# Altium footprint library AltiumLibrary.PcbLib: 85 footprints (part 3 of 6)
Each footprint in its own frame and in the unit in brackets; x right, y up, seen from the top. Pads: shape width x height; smd on the part's side, far side on the other; paste and mask are expansions set on the pad; w line width, h text height; cw(c..) or ccw(c..) is an arc to the next point about the centre after c.
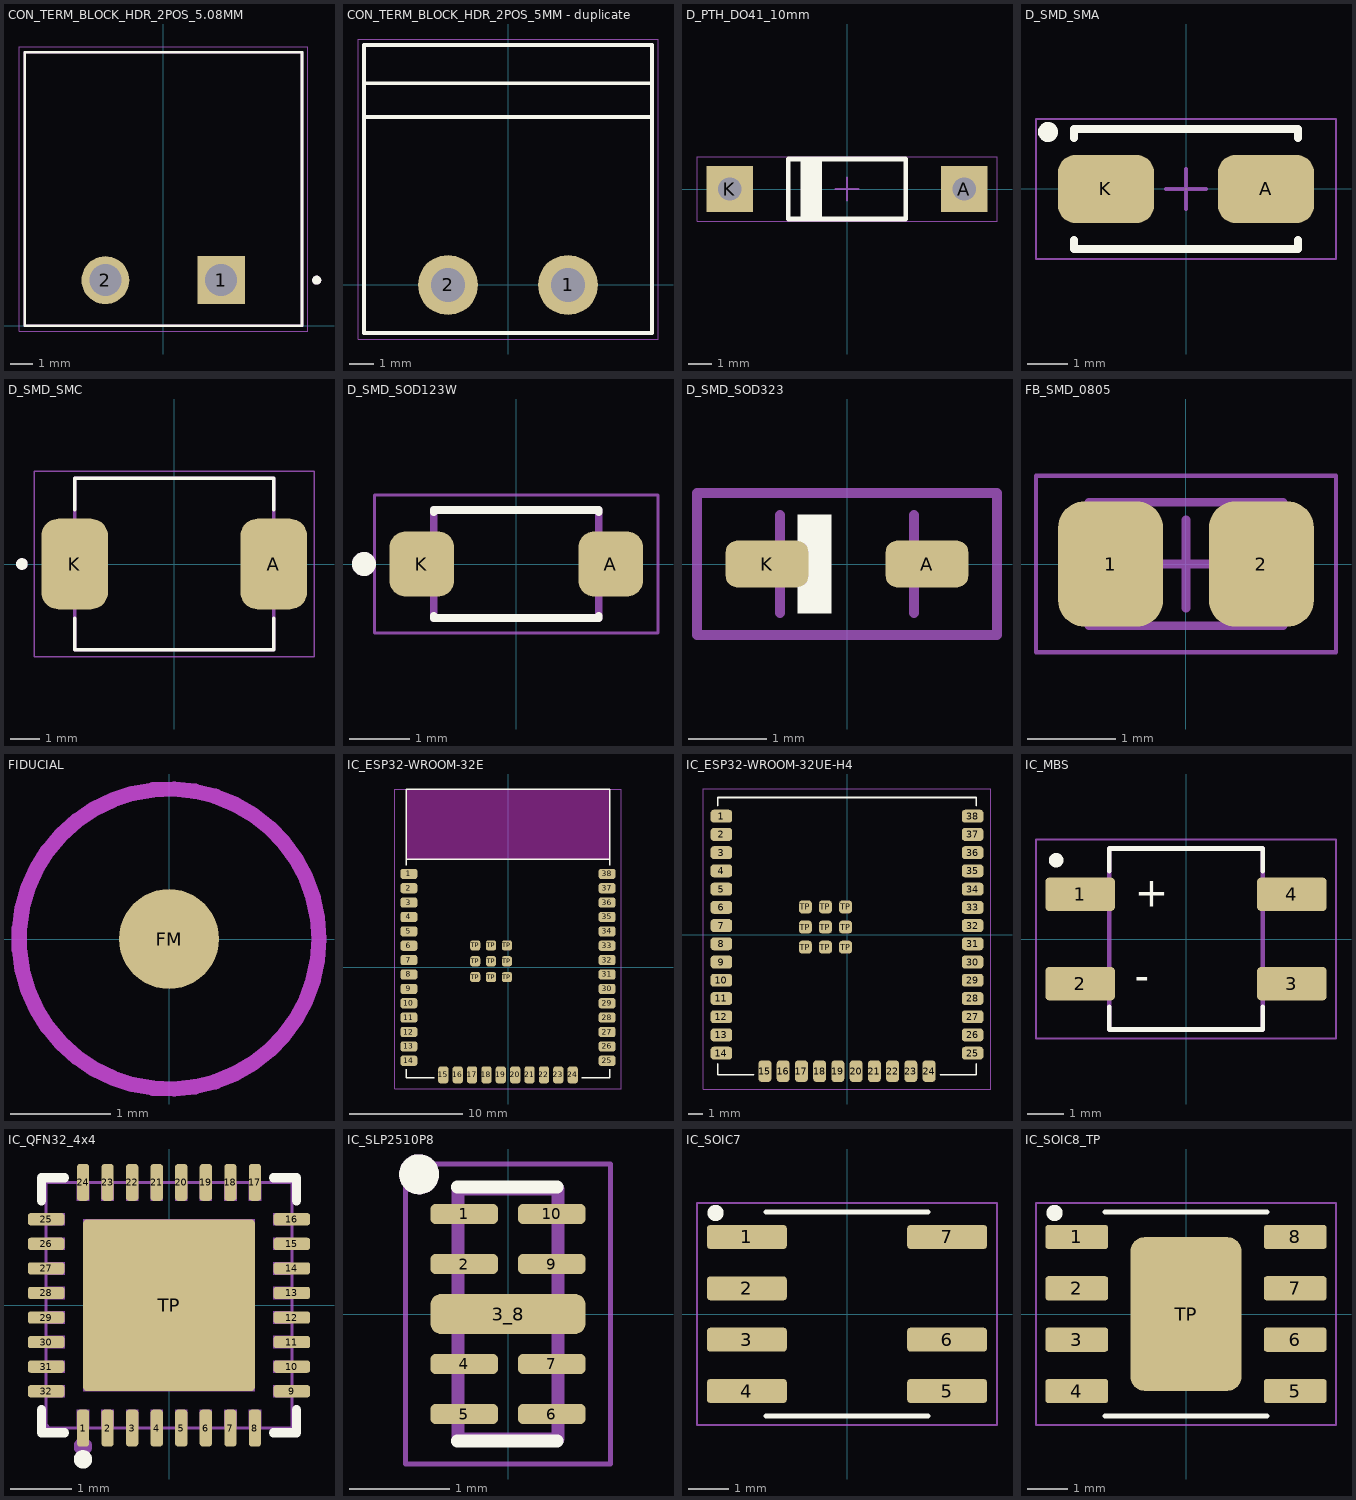
[diagram p2: the footprints below, top view; thin cyan lines are the x and y axes]

## CON_TERM_BLOCK_HDR_2POS_5.08MM [mm] "2 Position Terminal Block Header, Male Pins, Shrouded (4 Side) 0.200\" (5.08mm) 90°, Right Angle Through Hole"
height 11.8
pads (2):
  rect 2.1x2.1 hole 1.4: 1(2.54,2)
  round 2.1 hole 1.4: 2(-2.54,2)
Top Overlay:
  circle w0.2: c6.73,2 r0.1
  lines w0.127: -6.08,0 -6.08,12 6.08,12 6.08,0 -6.08,0
Top Assembly (Mech13):
  circle w0.2: c6.73,2 r0.1
  lines w0.127: -6.08,0 6.08,0 6.08,12 -6.08,12 -6.08,0
Top Courtyard:
  lines w0.05: -6.33,-0.25 6.33,-0.25 6.33,12.25 -6.33,12.25 -6.33,-0.25
3D body "step_temp.STEP": height 8.6, standoff -3.5, extent -6.04,0 6.04,12

## CON_TERM_BLOCK_HDR_2POS_5MM - duplicate [mm] "2 Position Terminal Block Header, Male Pins, Shrouded (4 Side) 5.0mm 90°, Right Angle Through Hole"
height 11.8
pads (2):
  round 2.5 hole 1.4: 1(2.5,0) 2(-2.5,0)
Top Overlay:
  lines w0.152: -6,7 6,7 ; -6,8.4 6,8.4 ; -6,-2 6,-2 6,10 -6,10 -6,-2
Top Courtyard:
  lines w0.051: -6.25,-2.25 6.25,-2.25 6.25,10.25 -6.25,10.25 -6.25,-2.25
3D body "Connector8p v1.step": height 15.55, standoff -3.47, extent -6,-1.905 6,20.295

## D_PTH_DO41_10mm [mm] "Generic DO41 PTH diode - 10.08mm lead spacing"
height 2.2
pads (2):
  rect 2x2 hole 1: A(5.08,0) K(-5.08,0)
Top Overlay:
  region: -2,1.3 -2,-1.3 -1.1,-1.3 -1.1,1.3
  lines w0.2: -2.55,-1.3 -2.55,1.3 2.55,1.3 2.55,-1.3 -2.55,-1.3
Top Courtyard:
  lines w0.05: -6.5,-1.4 -6.5,1.4 6.5,1.4 6.5,-1.4 -6.5,-1.4
  lines w0.1: -0.5,0 0.5,0 ; 0,-0.5 0,0.5
3D body "DIODE.step": height 3, standoff -3, extent -5.465,-1.3 5.465,1.3

## D_SMD_SMA [mm] "Molded Diode, 2-Leads, Body 5,20x2,73mm, IPC Medium Density"
height 2.2
pads (2):
  rrect50% 2.4x1.7 smd: A(2,0) K(-2,0)
Top Overlay:
  circle w0.25: c-3.45,1.425 r0.125
  lines w0.2: -2.8,-1.275 -2.8,-1.5 2.8,-1.5 2.8,-1.275 ; -2.8,1.275 -2.8,1.5 2.8,1.5 2.8,1.275
Top Courtyard:
  lines w0.05: -3.75,-1.75 3.75,-1.75 3.75,1.75 -3.75,1.75 -3.75,-1.75
  lines w0.1: -0.5,0 0.5,0 ; 0,-0.5 0,0.5
3D body "ES1J.STEP": height 2.51, standoff 0.01, extent -2.57,-1.28 2.57,1.28

## D_SMD_SMC [mm]
height 2.62
pads (2):
  rrect50% 2.29x3.12 smd paste+0 mask+0.102: A(3.43,0) K(-3.43,0)
Top Overlay:
  circle w0.2: c-5.25,0 r0.1
  lines w0.127: -3.427,-1.88 -3.427,-2.953 3.427,-2.953 3.427,-1.88 ; -3.427,1.88 -3.427,2.953 3.427,2.953 3.427,1.88
Top Assembly (Mech13):
  circle w0.2: c-5.25,0 r0.1
  lines w0.127: -3.427,-2.953 -3.427,2.953 3.427,2.953 3.427,-2.953 -3.427,-2.953
Top Courtyard:
  lines w0.05: -4.825,-3.203 -4.825,3.203 4.825,3.203 4.825,-3.203 -4.825,-3.203
3D body "step_temp.STEP": height 2.21, standoff 0.01, extent -3.95,-2.9 3.95,2.9

## D_SMD_SOD123W [mm]
pads (2):
  rrect50% 1.08x1.09 smd: A(1.575,0) K(-1.575,0)
Top Overlay:
  circle w0.2: c-2.54,0 r0.1
  lines w0.127: -1.375,-0.895 -1.375,-0.9 ; -1.375,-0.865 -1.375,-0.9 ; -1.375,0.865 -1.375,0.9 ; -1.375,0.895 -1.375,0.9 ; 1.375,-0.895 1.375,-0.9 ; 1.375,-0.865 1.375,-0.9 ; 1.375,0.865 1.375,0.9 ; 1.375,0.895 1.375,0.9 ; -1.375,-0.9 1.375,-0.9 ; -1.375,-0.9 1.375,-0.9 ; -1.375,0.9 1.375,0.9 ; -1.375,0.9 1.375,0.9
Top Assembly (Mech13):
  circle w0.2: c-2.54,0 r0.1
  lines w0.127: -1.375,-0.9 -1.375,0.9 1.375,0.9 1.375,-0.9 -1.375,-0.9
Top Courtyard:
  lines w0.05: -2.365,-1.15 -2.365,1.15 2.365,1.15 2.365,-1.15 -2.365,-1.15
3D body "step_temp.STEP": height 1.02, standoff 0, extent -1.85,-0.9 1.85,0.9

## D_SMD_SOD323 [mm]
pads (2):
  rrect50% 1.05x0.6 smd paste+0 mask+0.102: A(1.016,0) K(-1.016,0)
Top Overlay:
  region: -0.2,-0.625 -0.625,-0.625 -0.625,0.625 -0.2,0.625
Top Assembly (Mech13):
  lines w0.127: -0.85,-0.625 -0.85,0.625 ; 0.85,-0.625 0.85,0.625
Top Courtyard:
  lines w0.127: -1.905,-0.9 1.905,-0.9 1.905,0.9 -1.905,0.9 -1.905,-0.9
3D body "step_temp.STEP": height 1.01, standoff 0.01, extent -1.25,-0.635 1.25,0.615

## FB_SMD_0805 [mm] "0805 Ferrite Bead, 2-Leads, Body 2,00x1,20mm, IPC Medium Density"
height 1.1
pads (2):
  rrect50% 1.19x1.42 smd: 1(-0.855,0) 2(0.855,0)
Top Assembly (Mech13):
  lines w0.1: -1.1,-0.7 -1.1,0.7 1.1,0.7 1.1,-0.7 -1.1,-0.7
Top Courtyard:
  lines w0.05: -1.7,-1 -1.7,1 1.7,1 1.7,-1 -1.7,-1
  lines w0.1: -0.5,0 0.5,0 ; 0,-0.5 0,0.5
3D body "FB_SMD_0805.step": height 1.1, standoff 0, extent -1.1,-0.7 1.1,0.7

## FIDUCIAL [mm]
pads (1):
  round 1 smd paste-1 mask+1: FM(0,0)
Top Layer keep-out:
  circle w0.152: c0,0 r1.5
Top Courtyard:
  circle w0.152: c0,0 r1.5

## IC_ESP32-WROOM-32E [mm]
height 3.2
pads (47):
  rrect50% 1.5x0.9 smd: 1(-8.75,8.255) 2(-8.75,6.985) 3(-8.75,5.715) 4(-8.75,4.445) 5(-8.75,3.175) 6(-8.75,1.905) 7(-8.75,0.635) 8(-8.75,-0.635) 9(-8.75,-1.905) 10(-8.75,-3.175) 11(-8.75,-4.445) 12(-8.75,-5.715) 13(-8.75,-6.985) 14(-8.75,-8.255) 25(8.75,-8.255) 26(8.75,-6.985) 27(8.75,-5.715) 28(8.75,-4.445) 29(8.75,-3.175) 30(8.75,-1.905) 31(8.75,-0.635) 32(8.75,0.635) 33(8.75,1.905) 34(8.75,3.175) 35(8.75,4.445) 36(8.75,5.715) 37(8.75,6.985) 38(8.75,8.255)
  rrect50% 0.9x1.5 smd: 15(-5.715,-9.505) 16(-4.445,-9.505) 17(-3.175,-9.505) 18(-1.905,-9.505) 19(-0.635,-9.505) 20(0.635,-9.505) 21(1.905,-9.505) 22(3.175,-9.505) 23(4.445,-9.505) 24(5.715,-9.505)
  rrect50% 0.9x0.9 smd: TP(-2.9,-0.865) TP(-2.9,0.535) TP(-2.9,1.935) TP(-1.5,-0.865) TP(-1.5,0.535) TP(-1.5,1.935) TP(-0.1,-0.865) TP(-0.1,0.535) TP(-0.1,1.935)
Top Overlay:
  lines w0.127: -9,-9 -9,-9.755 -6.5,-9.755 ; -9,9 -9,9.555 ; 6.5,-9.755 9,-9.755 9,-9 ; 9,9 9,9.555 ; -9,9.555 9,9.555 ; -9,9.555 -9,15.745 9,15.745 9,9.555
Keep-Out Layer:
  region: 9,9.555 -9,9.555 -9,15.745 9,15.745
Top Courtyard:
  lines w0.05: -10,15.745 10,15.745 ; -10,15.75 -10,-10.75 -6.5,-10.75 10,-10.75 10,15.75
3D body "step_temp.STEP": height 3.25, standoff 0, extent -9,-9.779 9,15.721

## IC_ESP32-WROOM-32UE-H4 [mm]
height 3.2
pads (47):
  rrect50% 1.5x0.9 smd: 1(-8.75,8.255) 2(-8.75,6.985) 3(-8.75,5.715) 4(-8.75,4.445) 5(-8.75,3.175) 6(-8.75,1.905) 7(-8.75,0.635) 8(-8.75,-0.635) 9(-8.75,-1.905) 10(-8.75,-3.175) 11(-8.75,-4.445) 12(-8.75,-5.715) 13(-8.75,-6.985) 14(-8.75,-8.255) 25(8.75,-8.255) 26(8.75,-6.985) 27(8.75,-5.715) 28(8.75,-4.445) 29(8.75,-3.175) 30(8.75,-1.905) 31(8.75,-0.635) 32(8.75,0.635) 33(8.75,1.905) 34(8.75,3.175) 35(8.75,4.445) 36(8.75,5.715) 37(8.75,6.985) 38(8.75,8.255)
  rrect50% 0.9x1.5 smd: 15(-5.715,-9.505) 16(-4.445,-9.505) 17(-3.175,-9.505) 18(-1.905,-9.505) 19(-0.635,-9.505) 20(0.635,-9.505) 21(1.905,-9.505) 22(3.175,-9.505) 23(4.445,-9.505) 24(5.715,-9.505)
  rrect50% 0.9x0.9 smd: TP(-2.9,-0.865) TP(-2.9,0.535) TP(-2.9,1.935) TP(-1.5,-0.865) TP(-1.5,0.535) TP(-1.5,1.935) TP(-0.1,-0.865) TP(-0.1,0.535) TP(-0.1,1.935)
Top Overlay:
  lines w0.127: -9,-9 -9,-9.755 -6.5,-9.755 ; -9,9 -9,9.555 9,9.555 9,9 ; 6.5,-9.755 9,-9.755 9,-9
Top Courtyard:
  lines w0.05: -10,-10.75 -10,10.15 10,10.15 10,-10.75 -6.5,-10.75 -10,-10.75
3D body "ESP32-WROOM-32UE-H4--3DModel-STEP-269445.STEP": height 3.36, standoff 0.01, extent -9,-9.75 9,9.45

## IC_MBS [mm]
height 2.9
pads (4):
  rrect23% 1.91x0.91 smd paste+0 mask+0.102: 1(-2.9,1.225) 2(-2.9,-1.225) 3(2.9,-1.225) 4(2.9,1.225)
Top Overlay:
  circle w0.2: c-3.556,2.159 r0.1
  lines w0.127: -2.1,-1.86 -2.1,-2.48 2.1,-2.48 2.1,-1.86 ; -2.1,1.86 -2.1,2.48 2.1,2.48 2.1,1.86
  text "+" at -1.399,0.89 h0.81
  text "-" at -1.4,-1.4 h0.81
Top Assembly (Mech13):
  lines w0.127: -2.1,-2.48 2.1,-2.48 2.1,2.48 -2.1,2.48 -2.1,-2.48
Top Courtyard:
  lines w0.05: -4.11,-2.73 4.11,-2.73 4.11,2.73 -4.11,2.73 -4.11,-2.73
3D body "MB6S.STEP": height 1.66, standoff 0.01, extent -3.249,-2.35 3.249,2.35

## IC_QFN32_4x4 [mm]
pads (33):
  rrect50% 0.2x0.6 smd paste-100 mask+0.051: 1(-1.4,-2) 2(-1,-2) 3(-0.6,-2) 4(-0.2,-2) 5(0.2,-2) 6(0.6,-2) 7(1,-2) 8(1.4,-2) 17(1.4,2) 18(1,2) 19(0.6,2) 20(0.2,2) 21(-0.2,2) 22(-0.6,2) 23(-1,2) 24(-1.4,2)
  rrect50% 0.6x0.2 smd paste-100 mask+0.051: 9(2,-1.4) 10(2,-1) 11(2,-0.6) 12(2,-0.2) 13(2,0.2) 14(2,0.6) 15(2,1) 16(2,1.4) 25(-2,1.4) 26(-2,1) 27(-2,0.6) 28(-2,0.2) 29(-2,-0.2) 30(-2,-0.6) 31(-2,-1) 32(-2,-1.4)
  rrect5% 2.8x2.8 smd paste-100 mask+0.051: TP(0,0)
Top Overlay:
  circle w0.15: c-1.4,-2.51 r0.075
  lines w0.152: -2.076,-1.703 -2.076,-2.076 -1.703,-2.076 ; -2.076,1.703 -2.076,2.076 -1.703,2.076 ; 1.703,-2.076 2.076,-2.076 2.076,-1.703 ; 1.703,2.076 2.076,2.076 2.076,1.703
Top Paste:
  drawing of 38 lines, arcs and shapes, not listed
Mechanical 6:
  circle w0.15: c-1.4,-2.3 r0.075
Top Courtyard:
  drawing of 38 lines, arcs and shapes, not listed
3D body "IP101.step": height 0.92, standoff 0.01, extent -2.02,-2.01 2,2.01

## IC_SLP2510P8 [mm]
pads (9):
  rrect50% 0.675x0.2 smd: 1(-0.437,1) 2(-0.437,0.5) 4(-0.437,-0.5) 5(-0.437,-1) 6(0.437,-1) 7(0.437,-0.5) 9(0.437,0.5) 10(0.437,1)
  rrect50% 1.55x0.4 smd: 3_8(0,0)
Top Overlay:
  circle w0.2: c-0.889,1.397 r0.1
  lines w0.127: -0.508,-1.27 0.492,-1.27 ; -0.508,1.27 0.492,1.27
Top Assembly (Mech13):
  circle w0.2: c-0.889,1.397 r0.1
  lines w0.127: -0.5,-1.25 -0.5,1.25 0.5,1.25 0.5,-1.25 -0.5,-1.25
Top Courtyard:
  lines w0.05: -1.025,-1.5 -1.025,1.5 1.025,1.5 1.025,-1.5 -1.025,-1.5
3D body "step_temp.STEP": height 0.65, standoff 0, extent -0.5,-1.25 0.5,1.25

## IC_SOIC7 [mm] "Generic SOIC7 package"
height 1.75
pads (7):
  rrect25% 1.97x0.59 smd: 1(-2.475,1.905) 2(-2.475,0.635) 3(-2.475,-0.635) 4(-2.475,-1.905) 5(2.475,-1.905) 6(2.475,-0.635) 7(2.475,1.905)
Top Overlay:
  circle w0.2: c-3.25,2.5 r0.1
  lines w0.127: -2,-2.52 2,-2.52 ; -2,2.52 2,2.52
Top Courtyard:
  lines w0.05: -3.71,-2.75 3.71,-2.75 3.71,2.75 -3.71,2.75 -3.71,-2.75
3D body "U2.step": height 1.75, standoff 0, extent -3,-2.45 3,2.45

## IC_SOIC8_TP [mm] "Generic SOIC8 package with thermal pad"
height 1.75
pads (9):
  rrect25% 1.55x0.6 smd: 1(-2.7,1.905) 2(-2.7,0.635) 3(-2.7,-0.635) 4(-2.7,-1.905) 5(2.7,-1.905) 6(2.7,-0.635) 7(2.7,0.635) 8(2.7,1.905)
  rrect25% 2.75x3.8 smd: TP(0,0)
Top Overlay:
  circle w0.2: c-3.25,2.5 r0.1
  lines w0.127: -2,-2.52 2,-2.52 ; -2,2.52 2,2.52
Top Courtyard:
  lines w0.05: -3.71,-2.75 -3.71,2.75 3.71,2.75 3.71,-2.75 -3.71,-2.75
3D body "step_temp.STEP": height 1.75, standoff 0, extent -3,-2.45 3,2.45